# Altium schematic symbol library SCH - SWITCH - TI TPS22810DBVT.Schlib: 1 symbol
Pins are listed as number, name and electrical type; pins without a type are passive.

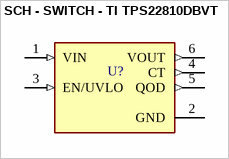
[diagram p0: symbol SCH - SWITCH - TI TPS22810DBVT]

## SCH - SWITCH - TI TPS22810DBVT
designator U?
footprint SOT95P280X145-6N
pins: 1 VIN (in), 2 GND (power), 3 EN/UVLO (in), 4 CT (out), 5 QOD (out), 6 VOUT (out)